# EAGLE library part PC1602ARU-HWB-G-Q (library step)
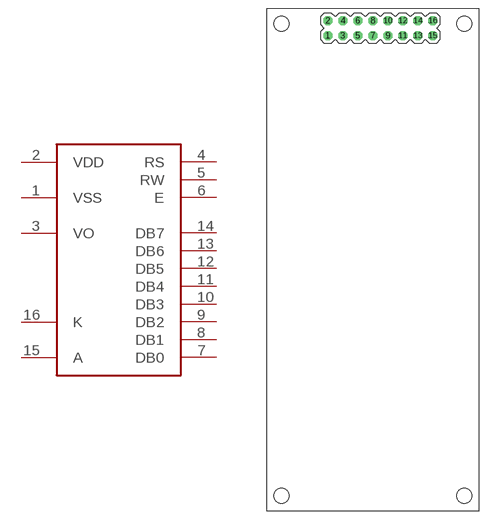
[diagram p1: symbol with the pads of PC1602ARU-HWB-G-Q; footprint PC1602ARU-HWB-G-Q]

Designator prefix -

## PC1602ARU-HWB-G-Q  [PC1602ARU-HWB-G-Q]
1  VSS
2  VDD
3  VO
4  RS
5  RW
6  E
7  DB0
8  DB1
9  DB2
10  DB3
11  DB4
12  DB5
13  DB6
14  DB7
15  A
16  K

## Footprint PC1602ARU-HWB-G-Q (pad centres in mm)
drill 1 octagon: 1 0,0; 2 0,2.54; 3 2.54,0; 4 2.54,2.54; 5 5.08,0; 6 5.08,2.54; 7 7.62,0; 8 7.62,2.54; 9 10.16,0; 10 10.16,2.54; 11 12.7,0; 12 12.7,2.54; 13 15.24,0; 14 15.24,2.54; 15 17.78,0; 16 17.78,2.54
hole 2.5 at -7.88,2.04
hole 2.5 at 23.12,2.04
hole 2.5 at 23.12,-77.96
hole 2.5 at -7.88,-77.96